# EAGLE library part DRV8302 (library ATSAM)
Motor Driver Power MOSFET Parallel 56-HTSSOP
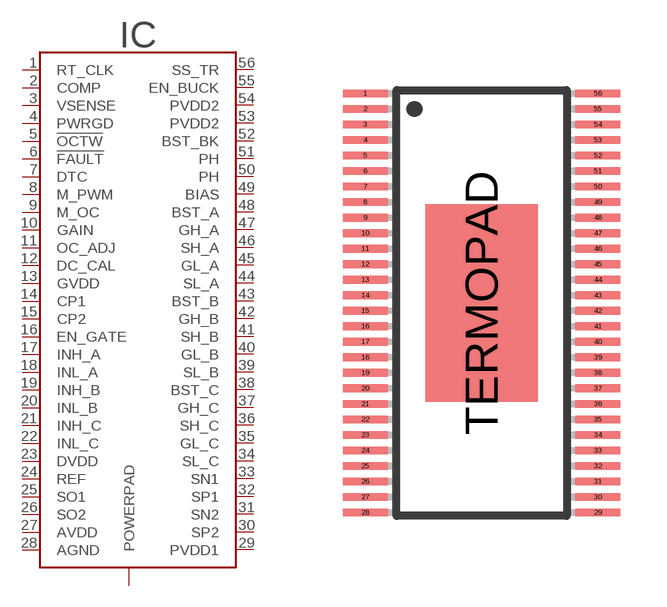
[diagram p10: symbol with the pads of R-PDSO-G56; footprint R-PDSO-G56]

Designator prefix IC

## DRV8302 (AEC-Q: ---; DIGIKEY#: 296-29544-1-ND; MANF: Texas Instruments; MANF#: DRV8302DCAR; OPERATING_TEMP: -40°C ~ 125°C (TA))  [R-PDSO-G56]
1  RT_CLK  in
2  COMP  out
3  VSENSE  in
4  PWRGD  out
5  !OCTW  out
6  !FAULT  out
7  DTC  in
8  M_PWM  in
9  M_OC  in
10  GAIN  out
11  OC_ADJ  in
12  DC_CAL  in
13  GVDD  pwr
14  CP1  pwr
15  CP2  pwr
16  EN_GATE  in
17  INH_A  in
18  INL_A  in
19  INH_B  in
20  INL_B  in
21  INH_C  in
22  INL_C  in
23  DVDD  pwr
24  REF  in
25  SO1  out
26  SO2  out
27  AVDD  pwr
28  AGND  pwr
29  PVDD1  pwr
30  SP2  in
31  SN2  in
32  SP1  in
33  SN1  in
34  SL_C  in
35  GL_C  out
36  SH_C  in
37  GH_C  out
38  BST_C  pwr
39  SL_B  in
40  GL_B  out
41  SH_B  in
42  GH_B  out
43  BST_B  pwr
44  SL_A  in
45  GL_A  out
46  SH_A  in
47  GH_A  out
48  BST_A  pwr
49  BIAS  in
50  PH  out
51  PH  out
52  BST_BK  pwr
53  PVDD2  pwr
54  PVDD2  pwr
55  EN_BUCK  in
56  SS_TR  in
TERMOPAD  POWERPAD  pwr

## Footprint R-PDSO-G56 (pad centres in mm)
smd 1.45 x 0.25: 1 -3.75,6.75; 2 -3.75,6.25; 3 -3.75,5.75; 4 -3.75,5.25; 5 -3.75,4.75; 6 -3.75,4.25; 7 -3.75,3.75; 8 -3.75,3.25; 9 -3.75,2.75; 10 -3.75,2.25; 11 -3.75,1.75; 12 -3.75,1.25; 13 -3.75,0.75; 14 -3.75,0.25; 15 -3.75,-0.25; 16 -3.75,-0.75; 17 -3.75,-1.25; 18 -3.75,-1.75; 19 -3.75,-2.25; 20 -3.75,-2.75; 21 -3.75,-3.25; 22 -3.75,-3.75; 23 -3.75,-4.25; 24 -3.75,-4.75; 25 -3.75,-5.25; 26 -3.75,-5.75; 27 -3.75,-6.25; 28 -3.75,-6.75; 29 3.75,-6.75; 30 3.75,-6.25; 31 3.75,-5.75; 32 3.75,-5.25; 33 3.75,-4.75; 34 3.75,-4.25; 35 3.75,-3.75; 36 3.75,-3.25; 37 3.75,-2.75; 38 3.75,-2.25; 39 3.75,-1.75; 40 3.75,-1.25; 41 3.75,-0.75; 42 3.75,-0.25; 43 3.75,0.25; 44 3.75,0.75; 45 3.75,1.25; 46 3.75,1.75; 47 3.75,2.25; 48 3.75,2.75; 49 3.75,3.25; 50 3.75,3.75; 51 3.75,4.25; 52 3.75,4.75; 53 3.75,5.25; 54 3.75,5.75; 55 3.75,6.25; 56 3.75,6.75
smd 3.61 x 6.35: TERMOPAD 0,0